# EAGLE library part LT1173 (library adafruit)
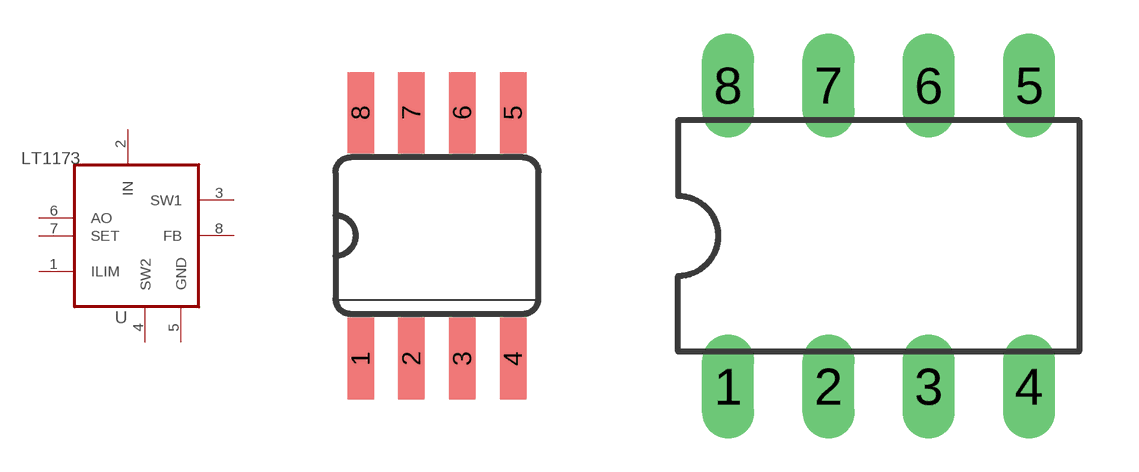
[diagram p46: symbol with the pads of SO08; footprints SO08, DIL08]

Designator prefix -

## LT1173CS  [SO08]
1  ILIM  pas
2  IN  in
3  SW1  pas
4  SW2  pas
5  GND  pwr
6  AO  out
7  SET  in
8  FB  sup

## LT1173CN  [DIL08]
Pads as for SO08

## Footprint SO08 (pad centres in mm)
smd 0.66 x 2.032: 1 -1.905,-3.073; 2 -0.635,-3.073; 3 0.635,-3.073; 4 1.905,-3.073; 5 1.905,3.073; 6 0.635,3.073; 7 -0.635,3.073; 8 -1.905,3.073

## Footprint DIL08 (pad centres in mm)
Dual In Line Package
drill 0.813 long: 1 -3.81,-3.81; 2 -1.27,-3.81; 3 1.27,-3.81; 4 3.81,-3.81; 5 3.81,3.81; 6 1.27,3.81; 7 -1.27,3.81; 8 -3.81,3.81